# EAGLE library part SPARKFUN-CONNECTORS_CONN_05X2 (library RCQ_Master_HW06)
Multi connection point. Often used as Generic Header-pin footprint for 0.1 inch spaced/style header connections For AVR SPI programming port, see special device with nice symbol: "AVR_SPI_PROG_5x2.dev" You can populate with any combo of single row headers, but if you'd like an exact match, check these: 2x5 AVR ICSP Male Header <https://www.sparkfun.com/products/778> (PRT-00778) 2x5 Pin Shrouded Header <https://www.sparkfun.com/products/8506> (PRT-08506) On any of the 0.1 inch spaced packages, you can populate with these: Break Away Headers - Straight <https://www.sparkfun.com/products/116> (PRT-00116) Break Away Male Headers - Right Angle <https://www.sparkfun.com/products/553> (PRT-00553) Female Headers <https://www.sparkfun.com/products/115> (PRT-00115) Break Away Headers - Machine Pin <https://www.sparkfun.com/products/117> (PRT-00117) Break Away Female Headers - Swiss Machine Pin <https://www.sparkfun.com/products/743> (PRT-00743) Special note: the shrouded connector mates well with our 5x2 ribbon cables: 2x5 Pin IDC Ribbon Cable <https://www.sparkfun.com/products/8535> (PRT-08535)
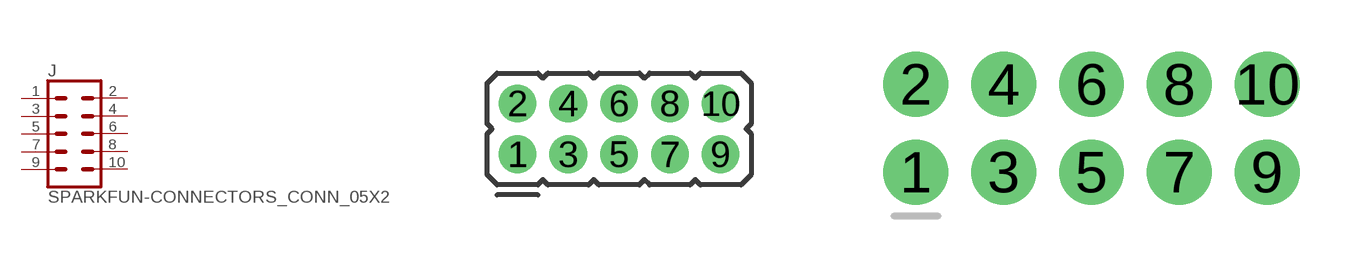
[diagram p1: symbol with the pads of SPARKFUN-CONNECTORS_2X5_PTH_SILK_.05; footprints SPARKFUN-CONNECTORS_2X5_PTH_SILK_.05, SPARKFUN-CONNECTORS_2X5_NOSILK]

Designator prefix J

## SPARKFUN-CONNECTORS_CONN_05X20.05_IN_PTH_SILK  [SPARKFUN-CONNECTORS_2X5_PTH_SILK_.05]
1  1  pas
2  2  pas
3  3  pas
4  4  pas
5  5  pas
6  6  pas
7  7  pas
8  8  pas
9  9  pas
10  10  pas

## SPARKFUN-CONNECTORS_CONN_05X2NO_SILK  [SPARKFUN-CONNECTORS_2X5_NOSILK]
Pads as for SPARKFUN-CONNECTORS_2X5_PTH_SILK_.05

## SPARKFUN-CONNECTORS_CONN_05X2PTH (PROD_ID: CONN-08499; SF_ID: PRT-0778)  [SPARKFUN-CONNECTORS_2X5]
Pads as for SPARKFUN-CONNECTORS_2X5_PTH_SILK_.05

## SPARKFUN-CONNECTORS_CONN_05X2RA  [SPARKFUN-CONNECTORS_2X5-RA]
Pads as for SPARKFUN-CONNECTORS_2X5_PTH_SILK_.05

## SPARKFUN-CONNECTORS_CONN_05X2RAF  [SPARKFUN-CONNECTORS_2X5-RAF]
Pads as for SPARKFUN-CONNECTORS_2X5_PTH_SILK_.05

## SPARKFUN-CONNECTORS_CONN_05X2SHD (PROD_ID: CONN-08671; SF_ID: PRT-08506)  [SPARKFUN-CONNECTORS_2X5-SHROUDED]
Pads as for SPARKFUN-CONNECTORS_2X5_PTH_SILK_.05

## SPARKFUN-CONNECTORS_CONN_05X2SHD-NS (PROD_ID: CONN-08671; SF_ID: PRT-08506)  [SPARKFUN-CONNECTORS_2X5-SHROUDED-NS]
Pads as for SPARKFUN-CONNECTORS_2X5_PTH_SILK_.05

## SPARKFUN-CONNECTORS_CONN_05X2SHD_LOCK (PROD_ID: CONN-08671; SF_ID: PRT-08506)  [SPARKFUN-CONNECTORS_2X5-SHROUDED_LOCK]
Pads as for SPARKFUN-CONNECTORS_2X5_PTH_SILK_.05

## SPARKFUN-CONNECTORS_CONN_05X2SHD_SMD (PROD_ID: CONN-09508)  [SPARKFUN-CONNECTORS_2X5-SHROUDED_SMD]
Pads as for SPARKFUN-CONNECTORS_2X5_PTH_SILK_.05

## Footprint SPARKFUN-CONNECTORS_2X5_PTH_SILK_.05 (pad centres in mm)
Plated Through Hole - 2x5 Holes are 0.05". Specifications: Pin count:10 Pin pitch:0.1" Example device(s): CONN_05x2
drill 0.432: 1 0,0; 2 0,1.27; 3 1.27,0; 4 1.27,1.27; 5 2.54,0; 6 2.54,1.27; 7 3.81,0; 8 3.81,1.27; 9 5.08,0; 10 5.08,1.27

## Footprint SPARKFUN-CONNECTORS_2X5_NOSILK (pad centres in mm)
Plated Through Hole - 2x5 No Silk Outline Specifications: Pin count:10 Pin pitch:0.1" Example device(s): CONN_05x2
drill 1.016 pad 1.88: 1 0,0; 2 0,2.54; 3 2.54,0; 4 2.54,2.54; 5 5.08,0; 6 5.08,2.54; 7 7.62,0; 8 7.62,2.54; 9 10.16,0; 10 10.16,2.54

## Footprint SPARKFUN-CONNECTORS_2X5 (pad centres in mm)
Plated Through Hole - 2x5 Specifications: Pin count:10 Pin pitch:0.1" Example device(s): CONN_05x2
drill 1.016 pad 1.88: 1 0,0; 2 0,2.54; 3 2.54,0; 4 2.54,2.54; 5 5.08,0; 6 5.08,2.54; 7 7.62,0; 8 7.62,2.54; 9 10.16,0; 10 10.16,2.54

## Footprint SPARKFUN-CONNECTORS_2X5-RA (pad centres in mm)
Plated Through Hole - 2x5 Right Angle Male Headers tDocu shows pin location. Specifications: Pin count:10 Pin pitch:0.1" Example device(s): CONN_05x2
drill 1.016 pad 1.88: 1 -1.27,5.08; 2 1.27,5.08; 3 -1.27,2.54; 4 1.27,2.54; 5 -1.27,0; 6 1.27,0; 7 -1.27,-2.54; 8 1.27,-2.54; 9 -1.27,-5.08; 10 1.27,-5.08

## Footprint SPARKFUN-CONNECTORS_2X5-RAF (pad centres in mm)
Plated Through Hole - 2x5 Right Angle Female Header Silk outline of pins Specifications: Pin count:10 Pin pitch:0.1" Example device(s): CONN_05x2
drill 1.016 pad 1.88: 1 -1.27,5.08; 2 1.27,5.08; 3 -1.27,2.54; 4 1.27,2.54; 5 -1.27,0; 6 1.27,0; 7 -1.27,-2.54; 8 1.27,-2.54; 9 -1.27,-5.08; 10 1.27,-5.08

## Footprint SPARKFUN-CONNECTORS_2X5-SHROUDED (pad centres in mm)
Plated Through Hole - 2x5 Shrouded Header Specifications: Pin count:10 Pin pitch:0.1" Datasheet referenced for footprint <https://www.sparkfun.com/datasheets/Prototyping/Shrouded-10pin.pdf> Example device(s): CONN_05x2
drill 1.016 pad 1.88: 1 -1.27,5.08; 2 1.27,5.08; 3 -1.27,2.54; 4 1.27,2.54; 5 -1.27,0; 6 1.27,0; 7 -1.27,-2.54; 8 1.27,-2.54; 9 -1.27,-5.08; 10 1.27,-5.08

## Footprint SPARKFUN-CONNECTORS_2X5-SHROUDED-NS (pad centres in mm)
Plated Through Hole - 2x5 Shrouded Header No Silk Specifications: Pin count:10 Pin pitch:0.1" Datasheet referenced for footprint <https://www.sparkfun.com/datasheets/Prototyping/Shrouded-10pin.pdf> Example device(s): CONN_05x2
drill 1.016 pad 1.88 octagon: 1 -1.27,5.08; 2 1.27,5.08; 3 -1.27,2.54; 4 1.27,2.54; 5 -1.27,0; 6 1.27,0; 7 -1.27,-2.54; 8 1.27,-2.54; 9 -1.27,-5.08; 10 1.27,-5.08

## Footprint SPARKFUN-CONNECTORS_2X5-SHROUDED_LOCK (pad centres in mm)
Plated Through Hole - 2x5 Shrouded Header Locking Footprint Holes are offset 0.005" from center, to hold pins in place during soldering. Specifications: Pin count:10 Pin pitch:0.1" Datasheet referenced for footprint <https://www.sparkfun.com/datasheets/Prototyping/Shrouded-10pin.pdf> Example device(s): CONN_05x2
drill 1.016 pad 1.88: 1 -1.397,5.08; 2 1.397,5.08; 3 -1.397,2.54; 4 1.397,2.54; 5 -1.397,0; 6 1.397,0; 7 -1.397,-2.54; 8 1.397,-2.54; 9 -1.397,-5.08; 10 1.397,-5.08

## Footprint SPARKFUN-CONNECTORS_2X5-SHROUDED_SMD (pad centres in mm)
Surface Mount - 2x5 Shrouded Header Specifications: Pin count:10 Pin pitch:0.1" Datasheet referenced for footprint <https://www.sparkfun.com/datasheets/Prototyping/Shrouded-10pin.pdf> Example device(s): CONN_05x2
smd 4.15 x 1: 1 -2.794,5.08; 2 2.794,5.08; 3 -2.794,2.54; 4 2.794,2.54; 5 -2.794,0; 6 2.794,0; 7 -2.794,-2.54; 8 2.794,-2.54; 9 -2.794,-5.08; 10 2.794,-5.08